# Altium integrated library Infineon_Microcontroller.IntLib: 721 symbols (part 17 of 66)
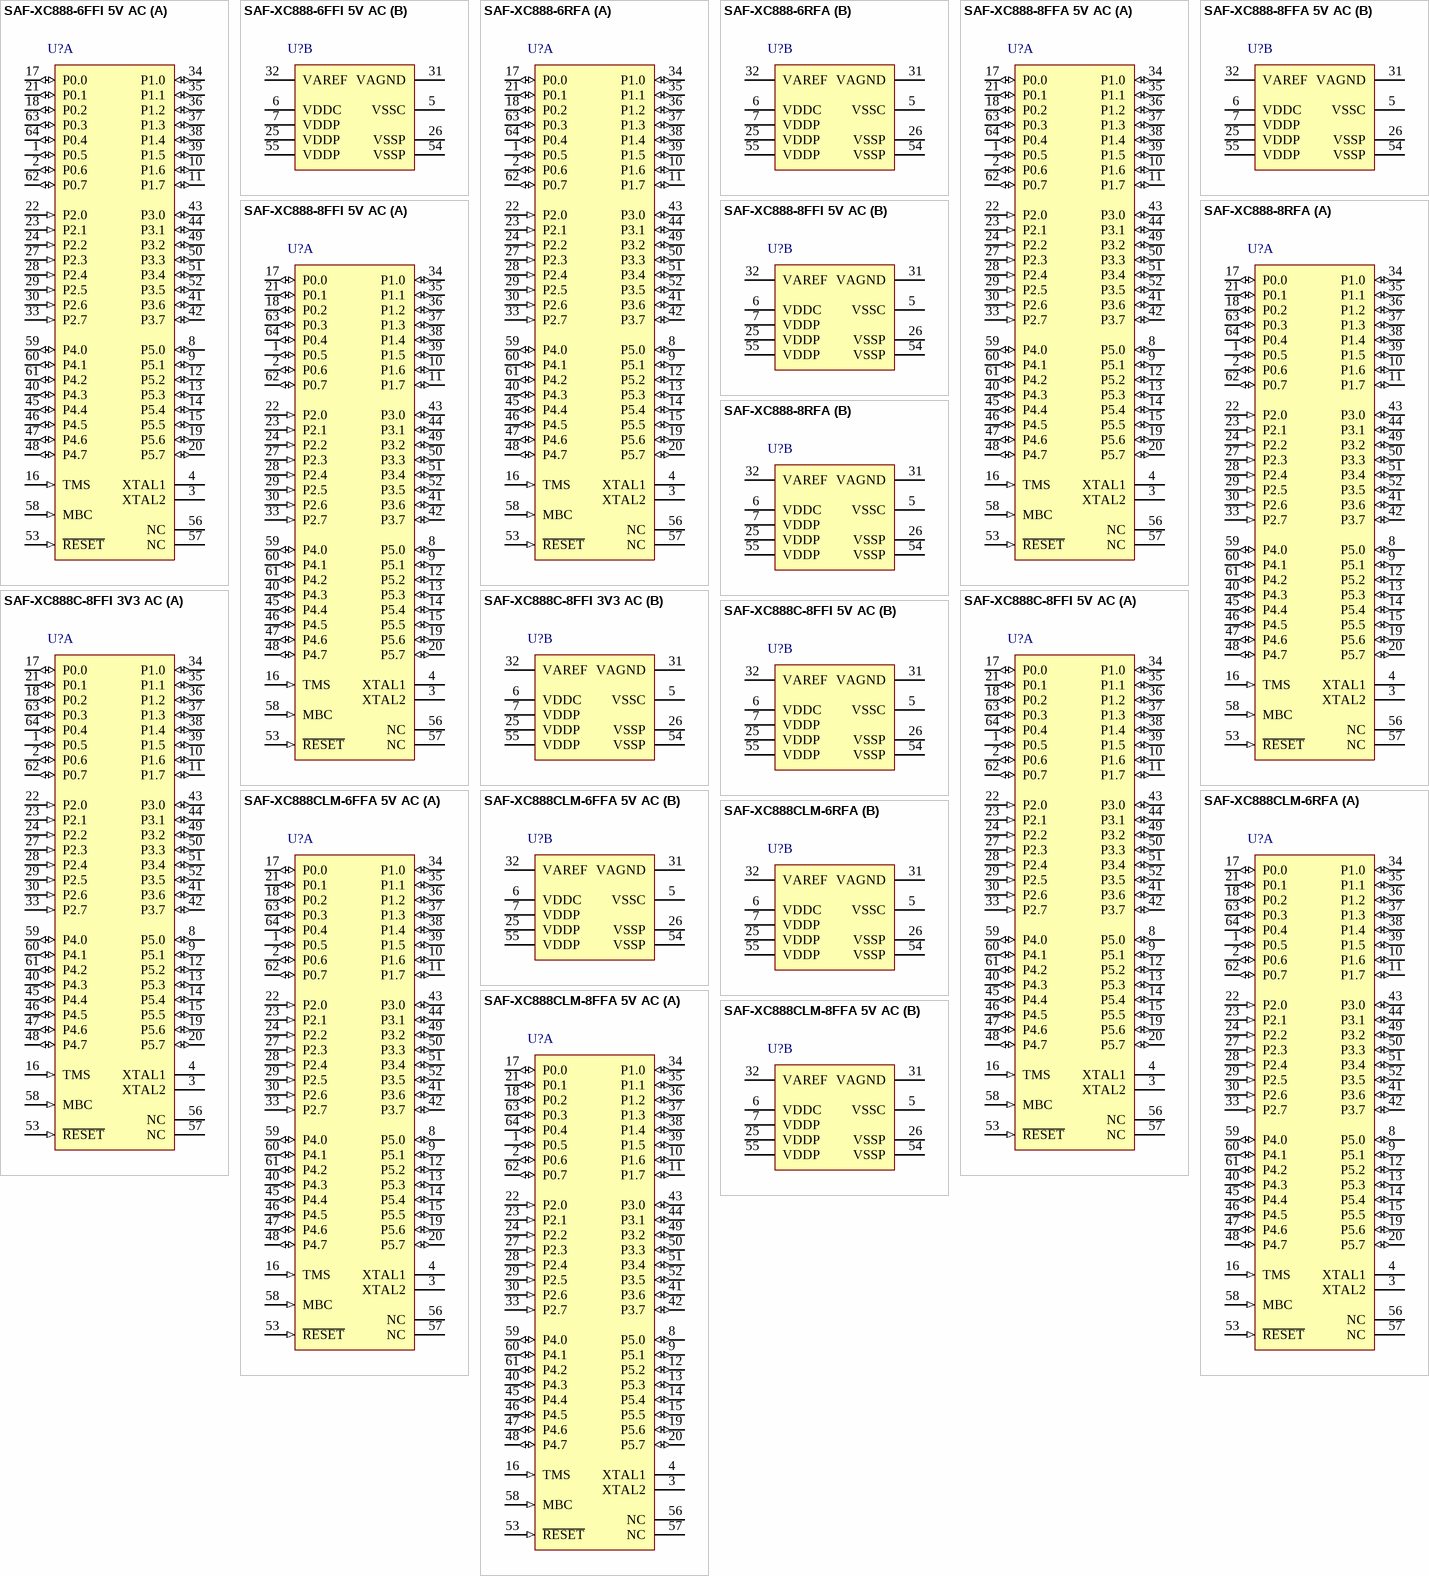
[diagram p134: symbols SAF-XC888-6FFI 5V AC to SAF-XC888CLM-8FFA 5V AC]

## SAF-XC888C-8FFI 5V AC
designator U?
24 MHz XC800-Industrail MCU with 32 KByte Program Memory, 1.75 KByte SRAM, 5 V, -40 to 85 degC, PG-LQFP-64, Green; Manufacturer: Infineon; PartNumber: SAF-XC888C-8FFI 5V AC; A / D input lines (incl. FADC): 8; CAN Nodes: 2; Digital I/O Lines: 48; DMA Channels: 0; DSP functionality (e.g MDU/MAC): FALSE; E2PROM Emulation (Data-Flash): TRUE; I/O Operation Voltages: 5 V; LIN BSL loader (for fast Flash programming): FALSE; Max Clock Frequency: 24 MHz; Number of ADC Modules: 1; Power Modes: 4; Serial I/O Interfaces: 3; Type of Memory: Flash; Type of Serial I/O Interfaces: UART(2), SSC(1); DatasheetVersion: Rev. 1.2; PackageVersion: Jun-08; PackageReference: PG-LQFP-64-4; PackageDescription: 64-Pin Plastic (Green) Low Profile Quad Flat Package, 10 x 10 mm Body, 0.5 mm Pitch; Supplier 1: Digi-Key; Supplier Part Number 1: SAF-XC888C-8FFI 5V AC-ND; Green: TRUE; Instruction width [bits]: 8; On-chip clock generation: TRUE; On-chip Voltage Regulator: TRUE; Oscillator Watchdog: TRUE; Program Memory: 32 KByte; SRAM (incl. Cache): 1.75 KByte; Timed I/O Pins (PWM-Ch,CAPCOM): 4; Timer / Counter: 4; Watchdog Timer: TRUE; Mounting Technology: Surface Mount; ComponentLink1Description: Manufacturer URL; ComponentLink1URL: http://www.infineon.com/; ComponentLink2Description: Datasheet; ComponentLink2URL: http://www.infineon.com/dgdl/XC88xCLM_ds_V1_2.pdf?folderId=db3a304412b407950112b408e8c90004&fileId=db3a304412b407950112b40c4a9e0afb; ComponentLink3Description: Package Specification; ComponentLink3URL: http://www.infineon.com/dgdl/PG-LQFP-64-4%2C-5%2C-13-Package_Overview.pdf?folderId=db3a30431a5c32f2011a8ca6115b5cf2&fileId=db3a30431a5c32f2011a8cb1baf95d11
footprint INF-PG-LQFP-64-4_N (QFP, 64-Leads, Body 10x10mm, Pitch 0.5mm, IPC Medium Density)
footprint INF-PG-LQFP-64-4_L (QFP, 64-Leads, Body 10x10mm, Pitch 0.5mm, IPC High Density)
footprint INF-PG-LQFP-64-4_M (QFP, 64-Leads, Body 10x10mm, Pitch 0.5mm, IPC Low Density)
part A pins: 1 P0.5 (io), 2 P0.6 (io) "GPIO", 3 XTAL2 "External Oscillator Output", 4 XTAL1 "External Oscillator Input", 8 P5.0 (io), 9 P5.1 (io), 10 P1.6 (io), 11 P1.7 (io), 12 P5.2 (io), 13 P5.3 (io), 14 P5.4 (io), 15 P5.5 (io), 16 TMS (in) "Test Mode Select", 17 P0.0 (io), 18 P0.2 (io), 19 P5.6 (io), 20 P5.7 (io), 21 P0.1 (io), 22 P2.0 (in), 23 P2.1 (in), 24 P2.2 (in), 27 P2.3 (in), 28 P2.4 (in), 29 P2.5 (in), 30 P2.6 (in), 33 P2.7 (in), 34 P1.0 (io), 35 P1.1 (io), 36 P1.2 (io), 37 P1.3 (io), 38 P1.4 (io), 39 P1.5 (io), 40 P4.3 (io), 41 P3.6 (io), 42 P3.7 (io), 43 P3.0 (io), 44 P3.1 (io), 45 P4.4 (io), 46 P4.5 (io), 47 P4.6 (io), 48 P4.7 (io), 49 P3.2 (io), 50 P3.3 (io), 51 P3.4 (io), 52 P3.5 (io), 53 ~{RESET} (in) "Reset Input", 56 NC "No Connection", 57 NC "No Connection", 58 MBC (in) "Monitor & BootStrap Loader Control", 59 P4.0 (io), 60 P4.1 (io), 61 P4.2 (io), 62 P0.7 (io), 63 P0.3 (io), 64 P0.4 (io)
part B pins: 5 VSSC (power) "Core Supply Ground", 6 VDDC (power) "Core Supply Monitor (2.5 V)", 7 VDDP (power) "I/O Port Supply (3.3 or 5.0 V)", 25 VDDP (power) "I/O Port Supply (3.3 or 5.0 V)", 26 VSSP (power) "I/O Port Ground", 31 VAGND (power) "ADC Reference Ground", 32 VAREF (power) "ADC Reference Voltage", 54 VSSP (power) "I/O Port Ground", 55 VDDP (power) "I/O Port Supply (3.3 or 5.0 V)"

## SAF-XC888CLM-6FFA 5V AC
designator U?
24 MHz XC800-Automotive MCU with 24 KByte Program Memory, 1.75 KByte SRAM, 5 V, PG-LQFP-64, Reel, Green; Manufacturer: Infineon; PartNumber: SAF-XC888CLM-6FFA 5V AC; A / D input lines (incl. FADC): 8; CAN Nodes: 2; Digital I/O Lines: 48; DMA Channels: 0; DSP functionality (e.g MDU/MAC): TRUE; I/O Operation Voltages: 5 V; Max Clock Frequency: 24 MHz; Number of ADC Modules: 1; Power Modes: 4; Real Time Clock (RTC): FALSE; Serial I/O Interfaces: 3; Type of Memory: Flash; Type of Serial I/O Interfaces: UART(2), SSC(1); DatasheetVersion: Rev. 1.2; PackageVersion: V1.2, 03/2007; PackageReference: PG-TQFP-64-8; PackageDescription: 64-Pin Plastic Thin Quad Flat Package, Body 10 x 10 mm, Pitch 0.5 mm; Supplier 1: Digi-Key; Supplier Part Number 1: SAF-XC888CLM-6FFA5VACINTR-ND; Supplier 2: Digi-Key; Supplier Part Number 2: SAF-XC888CLM-6FFA5VACINCT-ND; Supplier 3: Digi-Key; Supplier Part Number 3: SAF-XC888CLM-6FFA5VACINDKR-ND; E2PROM Emulation (Data-Flash): TRUE; Green: TRUE; Halogen-free: TRUE; Instruction width [bits]: 8; LIN BSL loader (for fast Flash programming): TRUE; On-chip clock generation: TRUE; On-chip Voltage Regulator: TRUE; Oscillator Watchdog: TRUE; Program Memory: 24 KByte; SRAM (incl. Cache): 1.75 KByte; Timed I/O Pins (PWM-Ch,CAPCOM): 4; Timer / Counter: 4; Watchdog Timer: TRUE; Mounting Technology: Surface Mount; ComponentLink1Description: Manufacturer URL; ComponentLink1URL: http://www.infineon.com/; ComponentLink2Description: Datasheet; ComponentLink2URL: http://www.infineon.com/dgdl/XC88xCLM_ds_V1_2.pdf?folderId=db3a304412b407950112b408e8c90004&fileId=db3a304412b407950112b40c4a9e0afb; ComponentLink3Description: Package Specification; ComponentLink3URL: http://www.infineon.com/dgdl/xc164lm_ds_v1.2_2007_03.pdf?folderId=db3a304412b407950112b408e8c90004&fileId=db3a304412b407950112b40c22200a81&sId=db3a30433d956bc3013d9e7060dd2801
footprint INF-PG-TQFP-64-8_N (QFP, 64-Leads, Body 10x10mm, Pitch 0.5mm, IPC Medium Density)
footprint INF-PG-TQFP-64-8_L (QFP, 64-Leads, Body 10x10mm, Pitch 0.5mm, IPC High Density)
footprint INF-PG-TQFP-64-8_M (QFP, 64-Leads, Body 10x10mm, Pitch 0.5mm, IPC Low Density)
part A pins: 1 P0.5 (io), 2 P0.6 (io) "GPIO", 3 XTAL2 "External Oscillator Output", 4 XTAL1 "External Oscillator Input", 8 P5.0 (io), 9 P5.1 (io), 10 P1.6 (io), 11 P1.7 (io), 12 P5.2 (io), 13 P5.3 (io), 14 P5.4 (io), 15 P5.5 (io), 16 TMS (in) "Test Mode Select", 17 P0.0 (io), 18 P0.2 (io), 19 P5.6 (io), 20 P5.7 (io), 21 P0.1 (io), 22 P2.0 (in), 23 P2.1 (in), 24 P2.2 (in), 27 P2.3 (in), 28 P2.4 (in), 29 P2.5 (in), 30 P2.6 (in), 33 P2.7 (in), 34 P1.0 (io), 35 P1.1 (io), 36 P1.2 (io), 37 P1.3 (io), 38 P1.4 (io), 39 P1.5 (io), 40 P4.3 (io), 41 P3.6 (io), 42 P3.7 (io), 43 P3.0 (io), 44 P3.1 (io), 45 P4.4 (io), 46 P4.5 (io), 47 P4.6 (io), 48 P4.7 (io), 49 P3.2 (io), 50 P3.3 (io), 51 P3.4 (io), 52 P3.5 (io), 53 ~{RESET} (in) "Reset Input", 56 NC "No Connection", 57 NC "No Connection", 58 MBC (in) "Monitor & BootStrap Loader Control", 59 P4.0 (io), 60 P4.1 (io), 61 P4.2 (io), 62 P0.7 (io), 63 P0.3 (io), 64 P0.4 (io)
part B pins: 5 VSSC (power) "Core Supply Ground", 6 VDDC (power) "Core Supply Monitor (2.5 V)", 7 VDDP (power) "I/O Port Supply (3.3 or 5.0 V)", 25 VDDP (power) "I/O Port Supply (3.3 or 5.0 V)", 26 VSSP (power) "I/O Port Ground", 31 VAGND (power) "ADC Reference Ground", 32 VAREF (power) "ADC Reference Voltage", 54 VSSP (power) "I/O Port Ground", 55 VDDP (power) "I/O Port Supply (3.3 or 5.0 V)"

## SAF-XC888CLM-6RFA
designator U?
24 MHz XC800-Automotive MCU with 24 KByte Program Memory, 1.75 KByte SRAM, 5 V, PG-TQFP-64, Green; Manufacturer: Infineon; PartNumber: SAF-XC888CLM-6RFA; A / D input lines (incl. FADC): 8; CAN Nodes: 2; Digital I/O Lines: 34; DMA Channels: 0; DSP functionality (e.g MDU/MAC): TRUE; I/O Operation Voltages: 5 V; LIN BSL loader (for fast Flash programming): FALSE; Max Clock Frequency: 24 MHz; Number of ADC Modules: 1; Power Modes: 4; Real Time Clock (RTC): FALSE; Serial I/O Interfaces: 3; Type of Memory: ROM; Type of Serial I/O Interfaces: UART(2), SSC(1); DatasheetVersion: Rev. 1.2; PackageVersion: V1.2, 03/2007; PackageReference: PG-TQFP-64-8; PackageDescription: 64-Pin Plastic Thin Quad Flat Package, Body 10 x 10 mm, Pitch 0.5 mm; E2PROM Emulation (Data-Flash): TRUE; Green: TRUE; Instruction width [bits]: 8; On-chip clock generation: TRUE; On-chip Voltage Regulator: TRUE; Oscillator Watchdog: TRUE; Program Memory: 24 KByte; SRAM (incl. Cache): 1.75 KByte; Timed I/O Pins (PWM-Ch,CAPCOM): 4; Timer / Counter: 4; Watchdog Timer: TRUE; Mounting Technology: Surface Mount; ComponentLink1Description: Manufacturer URL; ComponentLink1URL: http://www.infineon.com/; ComponentLink2Description: Datasheet; ComponentLink2URL: http://www.infineon.com/dgdl/XC88xCLM_ds_V1_2.pdf?folderId=db3a304412b407950112b408e8c90004&fileId=db3a304412b407950112b40c4a9e0afb; ComponentLink3Description: Package Specification; ComponentLink3URL: http://www.infineon.com/dgdl/xc164lm_ds_v1.2_2007_03.pdf?folderId=db3a304412b407950112b408e8c90004&fileId=db3a304412b407950112b40c22200a81&sId=db3a30433d956bc3013d9e7060dd2801
footprint INF-PG-TQFP-64-8_N (QFP, 64-Leads, Body 10x10mm, Pitch 0.5mm, IPC Medium Density)
footprint INF-PG-TQFP-64-8_L (QFP, 64-Leads, Body 10x10mm, Pitch 0.5mm, IPC High Density)
footprint INF-PG-TQFP-64-8_M (QFP, 64-Leads, Body 10x10mm, Pitch 0.5mm, IPC Low Density)
part A pins: 1 P0.5 (io), 2 P0.6 (io) "GPIO", 3 XTAL2 "External Oscillator Output", 4 XTAL1 "External Oscillator Input", 8 P5.0 (io), 9 P5.1 (io), 10 P1.6 (io), 11 P1.7 (io), 12 P5.2 (io), 13 P5.3 (io), 14 P5.4 (io), 15 P5.5 (io), 16 TMS (in) "Test Mode Select", 17 P0.0 (io), 18 P0.2 (io), 19 P5.6 (io), 20 P5.7 (io), 21 P0.1 (io), 22 P2.0 (in), 23 P2.1 (in), 24 P2.2 (in), 27 P2.3 (in), 28 P2.4 (in), 29 P2.5 (in), 30 P2.6 (in), 33 P2.7 (in), 34 P1.0 (io), 35 P1.1 (io), 36 P1.2 (io), 37 P1.3 (io), 38 P1.4 (io), 39 P1.5 (io), 40 P4.3 (io), 41 P3.6 (io), 42 P3.7 (io), 43 P3.0 (io), 44 P3.1 (io), 45 P4.4 (io), 46 P4.5 (io), 47 P4.6 (io), 48 P4.7 (io), 49 P3.2 (io), 50 P3.3 (io), 51 P3.4 (io), 52 P3.5 (io), 53 ~{RESET} (in) "Reset Input", 56 NC "No Connection", 57 NC "No Connection", 58 MBC (in) "Monitor & BootStrap Loader Control", 59 P4.0 (io), 60 P4.1 (io), 61 P4.2 (io), 62 P0.7 (io), 63 P0.3 (io), 64 P0.4 (io)
part B pins: 5 VSSC (power) "Core Supply Ground", 6 VDDC (power) "Core Supply Monitor (2.5 V)", 7 VDDP (power) "I/O Port Supply (3.3 or 5.0 V)", 25 VDDP (power) "I/O Port Supply (3.3 or 5.0 V)", 26 VSSP (power) "I/O Port Ground", 31 VAGND (power) "ADC Reference Ground", 32 VAREF (power) "ADC Reference Voltage", 54 VSSP (power) "I/O Port Ground", 55 VDDP (power) "I/O Port Supply (3.3 or 5.0 V)"

## SAF-XC888CLM-8FFA 5V AC
designator U?
24 MHz XC800-Automotive MCU with 32 KByte Program Memory, 1.75 KByte SRAM, 5 V, PG-LQFP-64, Reel, Green; Manufacturer: Infineon; PartNumber: SAF-XC888CLM-8FFA 5V AC; A / D input lines (incl. FADC): 8; CAN Nodes: 2; Digital I/O Lines: 48; DMA Channels: 0; DSP functionality (e.g MDU/MAC): TRUE; I/O Operation Voltages: 5 V; Max Clock Frequency: 24 MHz; Number of ADC Modules: 1; Power Modes: 4; Real Time Clock (RTC): FALSE; Serial I/O Interfaces: 3; Type of Memory: Flash; Type of Serial I/O Interfaces: UART(2), SSC(1); DatasheetVersion: Rev. 1.2; PackageVersion: V1.2, 03/2007; PackageReference: PG-TQFP-64-8; PackageDescription: 64-Pin Plastic Thin Quad Flat Package, Body 10 x 10 mm, Pitch 0.5 mm; Supplier 1: Digi-Key; Supplier Part Number 1: SAF-XC888CLM-8FFA5VACINTR-ND; Supplier 2: Digi-Key; Supplier Part Number 2: SAF-XC888CLM-8FFA5VACINCT-ND; Supplier 3: Digi-Key; Supplier Part Number 3: SAF-XC888CLM-8FFA5VACINDKR-ND; E2PROM Emulation (Data-Flash): TRUE; Green: TRUE; Halogen-free: available; Instruction width [bits]: 8; LIN BSL loader (for fast Flash programming): TRUE; On-chip clock generation: TRUE; On-chip Voltage Regulator: TRUE; Oscillator Watchdog: TRUE; Program Memory: 32 KByte; SRAM (incl. Cache): 1.75 KByte; Timed I/O Pins (PWM-Ch,CAPCOM): 4; Timer / Counter: 4; Watchdog Timer: TRUE; Mounting Technology: Surface Mount; ComponentLink1Description: Manufacturer URL; ComponentLink1URL: http://www.infineon.com/; ComponentLink2Description: Datasheet; ComponentLink2URL: http://www.infineon.com/dgdl/XC88xCLM_ds_V1_2.pdf?folderId=db3a304412b407950112b408e8c90004&fileId=db3a304412b407950112b40c4a9e0afb; ComponentLink3Description: Package Specification; ComponentLink3URL: http://www.infineon.com/dgdl/xc164lm_ds_v1.2_2007_03.pdf?folderId=db3a304412b407950112b408e8c90004&fileId=db3a304412b407950112b40c22200a81&sId=db3a30433d956bc3013d9e7060dd2801
footprint INF-PG-TQFP-64-8_N (QFP, 64-Leads, Body 10x10mm, Pitch 0.5mm, IPC Medium Density)
footprint INF-PG-TQFP-64-8_L (QFP, 64-Leads, Body 10x10mm, Pitch 0.5mm, IPC High Density)
footprint INF-PG-TQFP-64-8_M (QFP, 64-Leads, Body 10x10mm, Pitch 0.5mm, IPC Low Density)
part A pins: 1 P0.5 (io), 2 P0.6 (io) "GPIO", 3 XTAL2 "External Oscillator Output", 4 XTAL1 "External Oscillator Input", 8 P5.0 (io), 9 P5.1 (io), 10 P1.6 (io), 11 P1.7 (io), 12 P5.2 (io), 13 P5.3 (io), 14 P5.4 (io), 15 P5.5 (io), 16 TMS (in) "Test Mode Select", 17 P0.0 (io), 18 P0.2 (io), 19 P5.6 (io), 20 P5.7 (io), 21 P0.1 (io), 22 P2.0 (in), 23 P2.1 (in), 24 P2.2 (in), 27 P2.3 (in), 28 P2.4 (in), 29 P2.5 (in), 30 P2.6 (in), 33 P2.7 (in), 34 P1.0 (io), 35 P1.1 (io), 36 P1.2 (io), 37 P1.3 (io), 38 P1.4 (io), 39 P1.5 (io), 40 P4.3 (io), 41 P3.6 (io), 42 P3.7 (io), 43 P3.0 (io), 44 P3.1 (io), 45 P4.4 (io), 46 P4.5 (io), 47 P4.6 (io), 48 P4.7 (io), 49 P3.2 (io), 50 P3.3 (io), 51 P3.4 (io), 52 P3.5 (io), 53 ~{RESET} (in) "Reset Input", 56 NC "No Connection", 57 NC "No Connection", 58 MBC (in) "Monitor & BootStrap Loader Control", 59 P4.0 (io), 60 P4.1 (io), 61 P4.2 (io), 62 P0.7 (io), 63 P0.3 (io), 64 P0.4 (io)
part B pins: 5 VSSC (power) "Core Supply Ground", 6 VDDC (power) "Core Supply Monitor (2.5 V)", 7 VDDP (power) "I/O Port Supply (3.3 or 5.0 V)", 25 VDDP (power) "I/O Port Supply (3.3 or 5.0 V)", 26 VSSP (power) "I/O Port Ground", 31 VAGND (power) "ADC Reference Ground", 32 VAREF (power) "ADC Reference Voltage", 54 VSSP (power) "I/O Port Ground", 55 VDDP (power) "I/O Port Supply (3.3 or 5.0 V)"

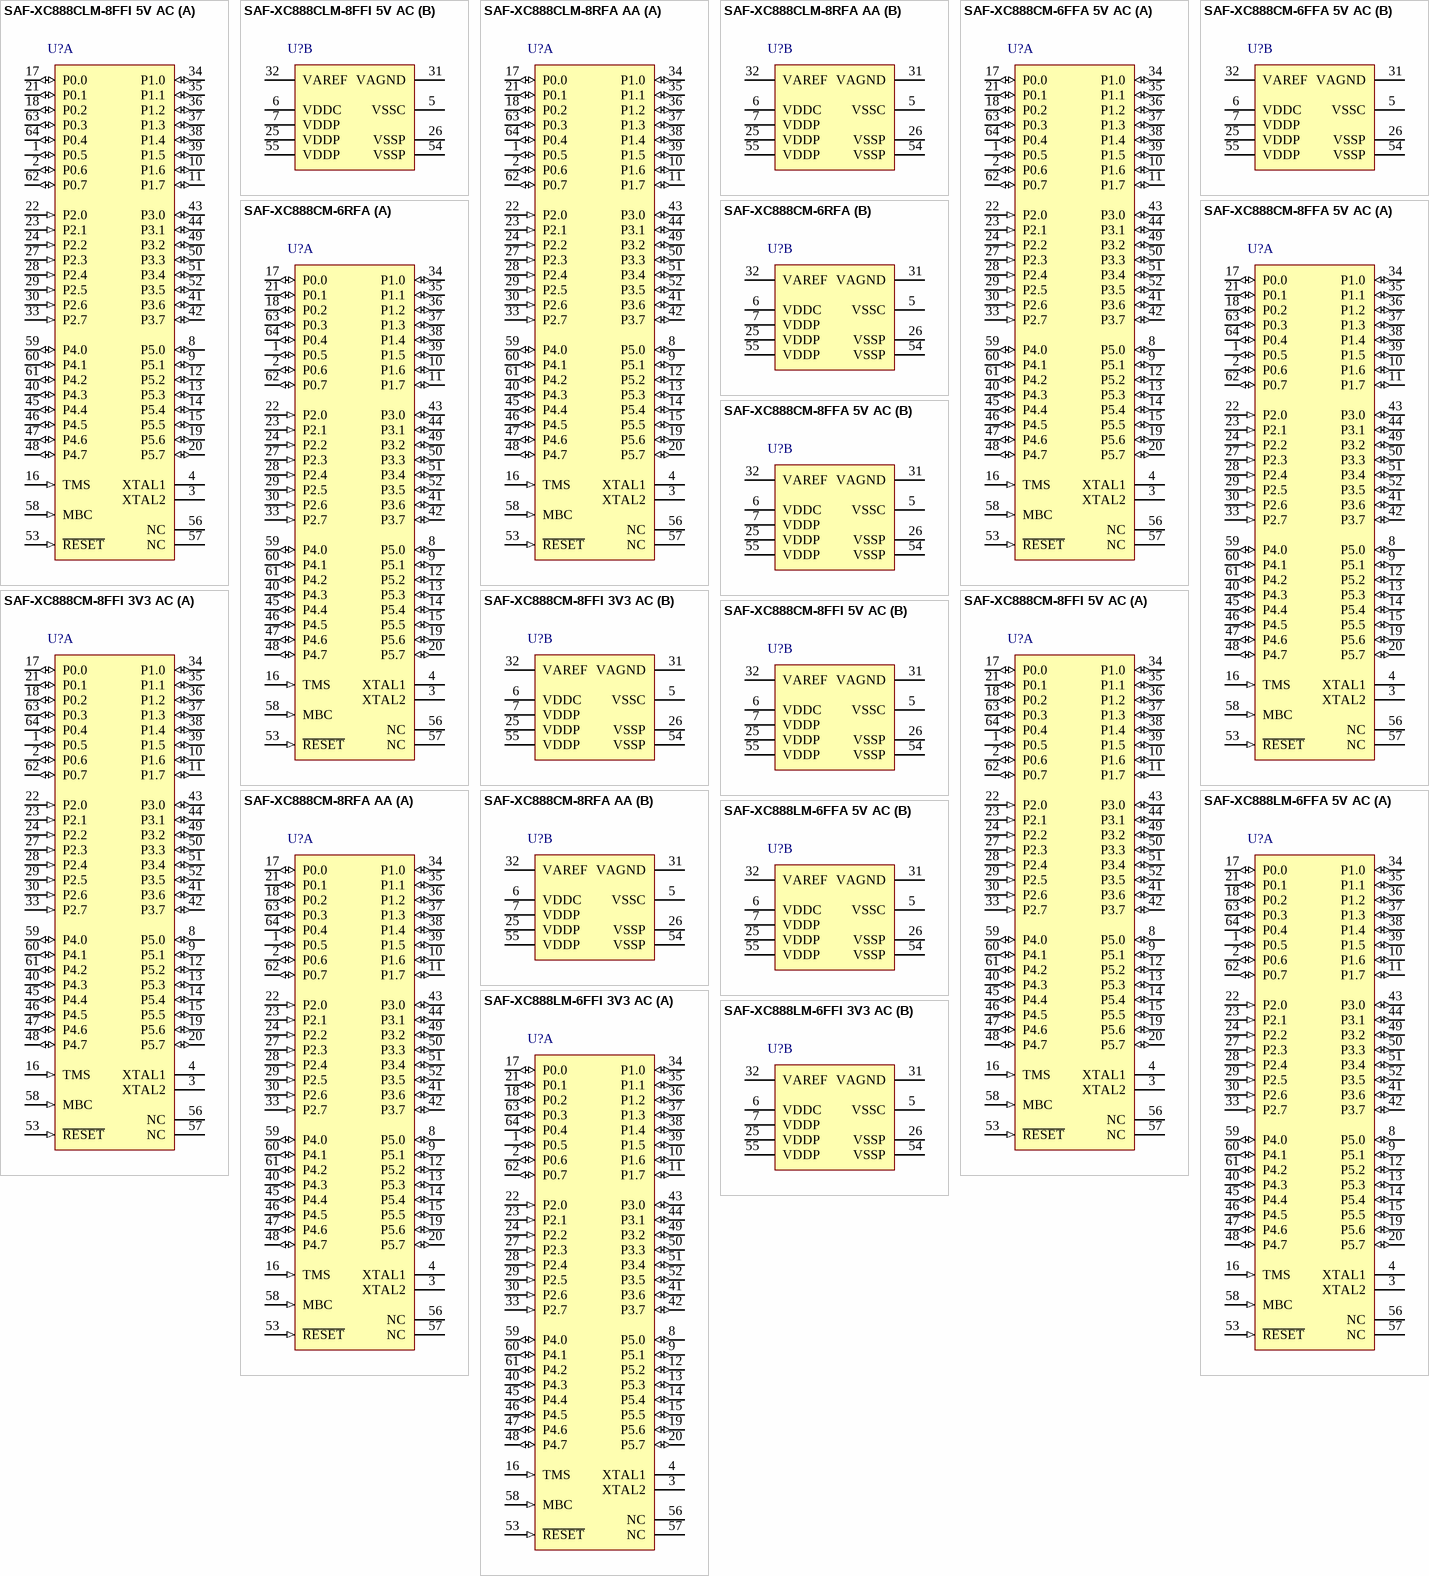
[diagram p27: symbols SAF-XC888CLM-8FFI 5V AC to SAF-XC888LM-6FFI 3V3 AC]

## SAF-XC888CLM-8FFI 5V AC
designator U?
24 MHz XC800-Industrail MCU with 32 KByte Program Memory, 1.75 KByte SRAM, 5 V, -40 to 85 degC, PG-LQFP-64, Reel, Green; Manufacturer: Infineon; PartNumber: SAF-XC888CLM-8FFI 5V AC; A / D input lines (incl. FADC): 8; CAN Nodes: 2; Digital I/O Lines: 48; DMA Channels: 0; DSP functionality (e.g MDU/MAC): TRUE; I/O Operation Voltages: 5 V; Max Clock Frequency: 24 MHz; Number of ADC Modules: 1; Power Modes: 4; Serial I/O Interfaces: 3; Type of Memory: Flash; Type of Serial I/O Interfaces: UART(2), SSC(1); DatasheetVersion: Rev. 1.2; PackageVersion: Jun-08; PackageReference: PG-LQFP-64-4; PackageDescription: 64-Pin Plastic (Green) Low Profile Quad Flat Package, 10 x 10 mm Body, 0.5 mm Pitch; Supplier 1: Digi-Key; Supplier Part Number 1: SAF-XC888CLM-8FFI 5V AC-ND; E2PROM Emulation (Data-Flash): TRUE; Green: TRUE; Halogen-free: TRUE; Instruction width [bits]: 8; LIN BSL loader (for fast Flash programming): TRUE; On-chip clock generation: TRUE; On-chip Voltage Regulator: TRUE; Oscillator Watchdog: TRUE; Packing: Reel; Program Memory: 32 KByte; SRAM (incl. Cache): 1.75 KByte; Timed I/O Pins (PWM-Ch,CAPCOM): 4; Timer / Counter: 4; Watchdog Timer: TRUE; Mounting Technology: Surface Mount; ComponentLink1Description: Manufacturer URL; ComponentLink1URL: http://www.infineon.com/; ComponentLink2Description: Datasheet; ComponentLink2URL: http://www.infineon.com/dgdl/XC88xCLM_ds_V1_2.pdf?folderId=db3a304412b407950112b408e8c90004&fileId=db3a304412b407950112b40c4a9e0afb; ComponentLink3Description: Package Specification; ComponentLink3URL: http://www.infineon.com/dgdl/PG-LQFP-64-4%2C-5%2C-13-Package_Overview.pdf?folderId=db3a30431a5c32f2011a8ca6115b5cf2&fileId=db3a30431a5c32f2011a8cb1baf95d11
footprint INF-PG-LQFP-64-4_N (QFP, 64-Leads, Body 10x10mm, Pitch 0.5mm, IPC Medium Density)
footprint INF-PG-LQFP-64-4_L (QFP, 64-Leads, Body 10x10mm, Pitch 0.5mm, IPC High Density)
footprint INF-PG-LQFP-64-4_M (QFP, 64-Leads, Body 10x10mm, Pitch 0.5mm, IPC Low Density)
part A pins: 1 P0.5 (io), 2 P0.6 (io) "GPIO", 3 XTAL2 "External Oscillator Output", 4 XTAL1 "External Oscillator Input", 8 P5.0 (io), 9 P5.1 (io), 10 P1.6 (io), 11 P1.7 (io), 12 P5.2 (io), 13 P5.3 (io), 14 P5.4 (io), 15 P5.5 (io), 16 TMS (in) "Test Mode Select", 17 P0.0 (io), 18 P0.2 (io), 19 P5.6 (io), 20 P5.7 (io), 21 P0.1 (io), 22 P2.0 (in), 23 P2.1 (in), 24 P2.2 (in), 27 P2.3 (in), 28 P2.4 (in), 29 P2.5 (in), 30 P2.6 (in), 33 P2.7 (in), 34 P1.0 (io), 35 P1.1 (io), 36 P1.2 (io), 37 P1.3 (io), 38 P1.4 (io), 39 P1.5 (io), 40 P4.3 (io), 41 P3.6 (io), 42 P3.7 (io), 43 P3.0 (io), 44 P3.1 (io), 45 P4.4 (io), 46 P4.5 (io), 47 P4.6 (io), 48 P4.7 (io), 49 P3.2 (io), 50 P3.3 (io), 51 P3.4 (io), 52 P3.5 (io), 53 ~{RESET} (in) "Reset Input", 56 NC "No Connection", 57 NC "No Connection", 58 MBC (in) "Monitor & BootStrap Loader Control", 59 P4.0 (io), 60 P4.1 (io), 61 P4.2 (io), 62 P0.7 (io), 63 P0.3 (io), 64 P0.4 (io)
part B pins: 5 VSSC (power) "Core Supply Ground", 6 VDDC (power) "Core Supply Monitor (2.5 V)", 7 VDDP (power) "I/O Port Supply (3.3 or 5.0 V)", 25 VDDP (power) "I/O Port Supply (3.3 or 5.0 V)", 26 VSSP (power) "I/O Port Ground", 31 VAGND (power) "ADC Reference Ground", 32 VAREF (power) "ADC Reference Voltage", 54 VSSP (power) "I/O Port Ground", 55 VDDP (power) "I/O Port Supply (3.3 or 5.0 V)"

## SAF-XC888CLM-8RFA AA
designator U?
24 MHz XC800-Automotive MCU with 32 KByte Program Memory, 1.75 KByte SRAM, 5 V, PG-TQFP-64, Green; Manufacturer: Infineon; PartNumber: SAF-XC888CLM-8RFA AA; A / D input lines (incl. FADC): 8; CAN Nodes: 2; Digital I/O Lines: 34; DMA Channels: 0; DSP functionality (e.g MDU/MAC): TRUE; I/O Operation Voltages: 5 V; LIN BSL loader (for fast Flash programming): FALSE; Max Clock Frequency: 24 MHz; Number of ADC Modules: 1; Power Modes: 4; Real Time Clock (RTC): FALSE; Serial I/O Interfaces: 3; Type of Memory: ROM; Type of Serial I/O Interfaces: UART(2), SSC(1); DatasheetVersion: Rev. 1.2; PackageVersion: V1.2, 03/2007; PackageReference: PG-TQFP-64-8; PackageDescription: 64-Pin Plastic Thin Quad Flat Package, Body 10 x 10 mm, Pitch 0.5 mm; E2PROM Emulation (Data-Flash): TRUE; Green: TRUE; Instruction width [bits]: 8; On-chip clock generation: TRUE; On-chip Voltage Regulator: TRUE; Oscillator Watchdog: TRUE; Program Memory: 32 KByte; SRAM (incl. Cache): 1.75 KByte; Timed I/O Pins (PWM-Ch,CAPCOM): 4; Timer / Counter: 4; Watchdog Timer: TRUE; Mounting Technology: Surface Mount; ComponentLink1Description: Manufacturer URL; ComponentLink1URL: http://www.infineon.com/; ComponentLink2Description: Datasheet; ComponentLink2URL: http://www.infineon.com/dgdl/XC88xCLM_ds_V1_2.pdf?folderId=db3a304412b407950112b408e8c90004&fileId=db3a304412b407950112b40c4a9e0afb; ComponentLink3Description: Package Specification; ComponentLink3URL: http://www.infineon.com/dgdl/xc164lm_ds_v1.2_2007_03.pdf?folderId=db3a304412b407950112b408e8c90004&fileId=db3a304412b407950112b40c22200a81&sId=db3a30433d956bc3013d9e7060dd2801
footprint INF-PG-TQFP-64-8_N (QFP, 64-Leads, Body 10x10mm, Pitch 0.5mm, IPC Medium Density)
footprint INF-PG-TQFP-64-8_L (QFP, 64-Leads, Body 10x10mm, Pitch 0.5mm, IPC High Density)
footprint INF-PG-TQFP-64-8_M (QFP, 64-Leads, Body 10x10mm, Pitch 0.5mm, IPC Low Density)
part A pins: 1 P0.5 (io), 2 P0.6 (io) "GPIO", 3 XTAL2 "External Oscillator Output", 4 XTAL1 "External Oscillator Input", 8 P5.0 (io), 9 P5.1 (io), 10 P1.6 (io), 11 P1.7 (io), 12 P5.2 (io), 13 P5.3 (io), 14 P5.4 (io), 15 P5.5 (io), 16 TMS (in) "Test Mode Select", 17 P0.0 (io), 18 P0.2 (io), 19 P5.6 (io), 20 P5.7 (io), 21 P0.1 (io), 22 P2.0 (in), 23 P2.1 (in), 24 P2.2 (in), 27 P2.3 (in), 28 P2.4 (in), 29 P2.5 (in), 30 P2.6 (in), 33 P2.7 (in), 34 P1.0 (io), 35 P1.1 (io), 36 P1.2 (io), 37 P1.3 (io), 38 P1.4 (io), 39 P1.5 (io), 40 P4.3 (io), 41 P3.6 (io), 42 P3.7 (io), 43 P3.0 (io), 44 P3.1 (io), 45 P4.4 (io), 46 P4.5 (io), 47 P4.6 (io), 48 P4.7 (io), 49 P3.2 (io), 50 P3.3 (io), 51 P3.4 (io), 52 P3.5 (io), 53 ~{RESET} (in) "Reset Input", 56 NC "No Connection", 57 NC "No Connection", 58 MBC (in) "Monitor & BootStrap Loader Control", 59 P4.0 (io), 60 P4.1 (io), 61 P4.2 (io), 62 P0.7 (io), 63 P0.3 (io), 64 P0.4 (io)
part B pins: 5 VSSC (power) "Core Supply Ground", 6 VDDC (power) "Core Supply Monitor (2.5 V)", 7 VDDP (power) "I/O Port Supply (3.3 or 5.0 V)", 25 VDDP (power) "I/O Port Supply (3.3 or 5.0 V)", 26 VSSP (power) "I/O Port Ground", 31 VAGND (power) "ADC Reference Ground", 32 VAREF (power) "ADC Reference Voltage", 54 VSSP (power) "I/O Port Ground", 55 VDDP (power) "I/O Port Supply (3.3 or 5.0 V)"

## SAF-XC888CM-6FFA 5V AC
designator U?
24 MHz XC800-Automotive MCU with 24 KByte Program Memory, 1.75 KByte SRAM, 5 V, PG-LQFP-64, Reel, Green; Manufacturer: Infineon; PartNumber: SAF-XC888CM-6FFA 5V AC; A / D input lines (incl. FADC): 8; CAN Nodes: 2; Digital I/O Lines: 48; DMA Channels: 0; DSP functionality (e.g MDU/MAC): TRUE; I/O Operation Voltages: 5 V; LIN BSL loader (for fast Flash programming): FALSE; Max Clock Frequency: 24 MHz; Number of ADC Modules: 1; Power Modes: 4; Real Time Clock (RTC): FALSE; Serial I/O Interfaces: 3; Type of Memory: Flash; Type of Serial I/O Interfaces: UART(2), SSC(1); DatasheetVersion: Rev. 1.2; PackageVersion: V1.2, 03/2007; PackageReference: PG-TQFP-64-8; PackageDescription: 64-Pin Plastic Thin Quad Flat Package, Body 10 x 10 mm, Pitch 0.5 mm; Supplier 1: Digi-Key; Supplier Part Number 1: SAF-XC888CM-6FFA 5V AC-ND; E2PROM Emulation (Data-Flash): TRUE; Green: TRUE; Halogen-free: TRUE; Instruction width [bits]: 8; On-chip clock generation: TRUE; On-chip Voltage Regulator: TRUE; Oscillator Watchdog: TRUE; Program Memory: 24 KByte; SRAM (incl. Cache): 1.75 KByte; Timed I/O Pins (PWM-Ch,CAPCOM): 4; Timer / Counter: 4; Watchdog Timer: TRUE; Mounting Technology: Surface Mount; ComponentLink1Description: Manufacturer URL; ComponentLink1URL: http://www.infineon.com/; ComponentLink2Description: Datasheet; ComponentLink2URL: http://www.infineon.com/dgdl/XC88xCLM_ds_V1_2.pdf?folderId=db3a304412b407950112b408e8c90004&fileId=db3a304412b407950112b40c4a9e0afb; ComponentLink3Description: Package Specification; ComponentLink3URL: http://www.infineon.com/dgdl/xc164lm_ds_v1.2_2007_03.pdf?folderId=db3a304412b407950112b408e8c90004&fileId=db3a304412b407950112b40c22200a81&sId=db3a30433d956bc3013d9e7060dd2801
footprint INF-PG-TQFP-64-8_N (QFP, 64-Leads, Body 10x10mm, Pitch 0.5mm, IPC Medium Density)
footprint INF-PG-TQFP-64-8_L (QFP, 64-Leads, Body 10x10mm, Pitch 0.5mm, IPC High Density)
footprint INF-PG-TQFP-64-8_M (QFP, 64-Leads, Body 10x10mm, Pitch 0.5mm, IPC Low Density)
part A pins: 1 P0.5 (io), 2 P0.6 (io) "GPIO", 3 XTAL2 "External Oscillator Output", 4 XTAL1 "External Oscillator Input", 8 P5.0 (io), 9 P5.1 (io), 10 P1.6 (io), 11 P1.7 (io), 12 P5.2 (io), 13 P5.3 (io), 14 P5.4 (io), 15 P5.5 (io), 16 TMS (in) "Test Mode Select", 17 P0.0 (io), 18 P0.2 (io), 19 P5.6 (io), 20 P5.7 (io), 21 P0.1 (io), 22 P2.0 (in), 23 P2.1 (in), 24 P2.2 (in), 27 P2.3 (in), 28 P2.4 (in), 29 P2.5 (in), 30 P2.6 (in), 33 P2.7 (in), 34 P1.0 (io), 35 P1.1 (io), 36 P1.2 (io), 37 P1.3 (io), 38 P1.4 (io), 39 P1.5 (io), 40 P4.3 (io), 41 P3.6 (io), 42 P3.7 (io), 43 P3.0 (io), 44 P3.1 (io), 45 P4.4 (io), 46 P4.5 (io), 47 P4.6 (io), 48 P4.7 (io), 49 P3.2 (io), 50 P3.3 (io), 51 P3.4 (io), 52 P3.5 (io), 53 ~{RESET} (in) "Reset Input", 56 NC "No Connection", 57 NC "No Connection", 58 MBC (in) "Monitor & BootStrap Loader Control", 59 P4.0 (io), 60 P4.1 (io), 61 P4.2 (io), 62 P0.7 (io), 63 P0.3 (io), 64 P0.4 (io)
part B pins: 5 VSSC (power) "Core Supply Ground", 6 VDDC (power) "Core Supply Monitor (2.5 V)", 7 VDDP (power) "I/O Port Supply (3.3 or 5.0 V)", 25 VDDP (power) "I/O Port Supply (3.3 or 5.0 V)", 26 VSSP (power) "I/O Port Ground", 31 VAGND (power) "ADC Reference Ground", 32 VAREF (power) "ADC Reference Voltage", 54 VSSP (power) "I/O Port Ground", 55 VDDP (power) "I/O Port Supply (3.3 or 5.0 V)"

## SAF-XC888CM-6RFA
designator U?
24 MHz XC800-Automotive MCU with 24 KByte Program Memory, 1.75 KByte SRAM, 5 V, PG-TQFP-64, Reel, Green; Manufacturer: Infineon; PartNumber: SAF-XC888CM-6RFA; A / D input lines (incl. FADC): 8; CAN Nodes: 2; Digital I/O Lines: 34; DMA Channels: 0; DSP functionality (e.g MDU/MAC): TRUE; I/O Operation Voltages: 5 V; LIN BSL loader (for fast Flash programming): FALSE; Max Clock Frequency: 24 MHz; Number of ADC Modules: 1; Power Modes: 4; Real Time Clock (RTC): FALSE; Serial I/O Interfaces: 3; Type of Memory: ROM; Type of Serial I/O Interfaces: UART(2), SSC(1); DatasheetVersion: Rev. 1.2; PackageVersion: V1.2, 03/2007; PackageReference: PG-TQFP-64-8; PackageDescription: 64-Pin Plastic Thin Quad Flat Package, Body 10 x 10 mm, Pitch 0.5 mm; E2PROM Emulation (Data-Flash): TRUE; Green: TRUE; Halogen-free: available; Instruction width [bits]: 8; On-chip clock generation: TRUE; On-chip Voltage Regulator: TRUE; Oscillator Watchdog: TRUE; Packing: Reel; Program Memory: 24 KByte; SRAM (incl. Cache): 1.75 KByte; Timed I/O Pins (PWM-Ch,CAPCOM): 4; Timer / Counter: 4; Watchdog Timer: TRUE; Mounting Technology: Surface Mount; ComponentLink1Description: Manufacturer URL; ComponentLink1URL: http://www.infineon.com/; ComponentLink2Description: Datasheet; ComponentLink2URL: http://www.infineon.com/dgdl/XC88xCLM_ds_V1_2.pdf?folderId=db3a304412b407950112b408e8c90004&fileId=db3a304412b407950112b40c4a9e0afb; ComponentLink3Description: Package Specification; ComponentLink3URL: http://www.infineon.com/dgdl/xc164lm_ds_v1.2_2007_03.pdf?folderId=db3a304412b407950112b408e8c90004&fileId=db3a304412b407950112b40c22200a81&sId=db3a30433d956bc3013d9e7060dd2801
footprint INF-PG-TQFP-64-8_N (QFP, 64-Leads, Body 10x10mm, Pitch 0.5mm, IPC Medium Density)
footprint INF-PG-TQFP-64-8_L (QFP, 64-Leads, Body 10x10mm, Pitch 0.5mm, IPC High Density)
footprint INF-PG-TQFP-64-8_M (QFP, 64-Leads, Body 10x10mm, Pitch 0.5mm, IPC Low Density)
part A pins: 1 P0.5 (io), 2 P0.6 (io) "GPIO", 3 XTAL2 "External Oscillator Output", 4 XTAL1 "External Oscillator Input", 8 P5.0 (io), 9 P5.1 (io), 10 P1.6 (io), 11 P1.7 (io), 12 P5.2 (io), 13 P5.3 (io), 14 P5.4 (io), 15 P5.5 (io), 16 TMS (in) "Test Mode Select", 17 P0.0 (io), 18 P0.2 (io), 19 P5.6 (io), 20 P5.7 (io), 21 P0.1 (io), 22 P2.0 (in), 23 P2.1 (in), 24 P2.2 (in), 27 P2.3 (in), 28 P2.4 (in), 29 P2.5 (in), 30 P2.6 (in), 33 P2.7 (in), 34 P1.0 (io), 35 P1.1 (io), 36 P1.2 (io), 37 P1.3 (io), 38 P1.4 (io), 39 P1.5 (io), 40 P4.3 (io), 41 P3.6 (io), 42 P3.7 (io), 43 P3.0 (io), 44 P3.1 (io), 45 P4.4 (io), 46 P4.5 (io), 47 P4.6 (io), 48 P4.7 (io), 49 P3.2 (io), 50 P3.3 (io), 51 P3.4 (io), 52 P3.5 (io), 53 ~{RESET} (in) "Reset Input", 56 NC "No Connection", 57 NC "No Connection", 58 MBC (in) "Monitor & BootStrap Loader Control", 59 P4.0 (io), 60 P4.1 (io), 61 P4.2 (io), 62 P0.7 (io), 63 P0.3 (io), 64 P0.4 (io)
part B pins: 5 VSSC (power) "Core Supply Ground", 6 VDDC (power) "Core Supply Monitor (2.5 V)", 7 VDDP (power) "I/O Port Supply (3.3 or 5.0 V)", 25 VDDP (power) "I/O Port Supply (3.3 or 5.0 V)", 26 VSSP (power) "I/O Port Ground", 31 VAGND (power) "ADC Reference Ground", 32 VAREF (power) "ADC Reference Voltage", 54 VSSP (power) "I/O Port Ground", 55 VDDP (power) "I/O Port Supply (3.3 or 5.0 V)"

## SAF-XC888CM-8FFA 5V AC
designator U?
24 MHz XC800-Automotive MCU with 32 KByte Program Memory, 1.75 KByte SRAM, 5 V, PG-LQFP-64, Reel, Green; Manufacturer: Infineon; PartNumber: SAF-XC888CM-8FFA 5V AC; A / D input lines (incl. FADC): 8; CAN Nodes: 2; Digital I/O Lines: 48; DMA Channels: 0; DSP functionality (e.g MDU/MAC): TRUE; I/O Operation Voltages: 5 V; LIN BSL loader (for fast Flash programming): FALSE; Max Clock Frequency: 24 MHz; Number of ADC Modules: 1; Power Modes: 4; Real Time Clock (RTC): FALSE; Serial I/O Interfaces: 3; Type of Memory: Flash; Type of Serial I/O Interfaces: UART(2), SSC(1); DatasheetVersion: Rev. 1.2; PackageVersion: V1.2, 03/2007; PackageReference: PG-TQFP-64-8; PackageDescription: 64-Pin Plastic Thin Quad Flat Package, Body 10 x 10 mm, Pitch 0.5 mm; Supplier 1: Digi-Key; Supplier Part Number 1: SAF-XC888CM-8FFA 5V AC-ND; E2PROM Emulation (Data-Flash): TRUE; Green: TRUE; Halogen-free: TRUE; Instruction width [bits]: 8; On-chip clock generation: TRUE; On-chip Voltage Regulator: TRUE; Oscillator Watchdog: TRUE; Program Memory: 32 KByte; SRAM (incl. Cache): 1.75 KByte; Timed I/O Pins (PWM-Ch,CAPCOM): 4; Timer / Counter: 4; Watchdog Timer: TRUE; Mounting Technology: Surface Mount; ComponentLink1Description: Manufacturer URL; ComponentLink1URL: http://www.infineon.com/; ComponentLink2Description: Datasheet; ComponentLink2URL: http://www.infineon.com/dgdl/XC88xCLM_ds_V1_2.pdf?folderId=db3a304412b407950112b408e8c90004&fileId=db3a304412b407950112b40c4a9e0afb; ComponentLink3Description: Package Specification; ComponentLink3URL: http://www.infineon.com/dgdl/xc164lm_ds_v1.2_2007_03.pdf?folderId=db3a304412b407950112b408e8c90004&fileId=db3a304412b407950112b40c22200a81&sId=db3a30433d956bc3013d9e7060dd2801
footprint INF-PG-TQFP-64-8_N (QFP, 64-Leads, Body 10x10mm, Pitch 0.5mm, IPC Medium Density)
footprint INF-PG-TQFP-64-8_L (QFP, 64-Leads, Body 10x10mm, Pitch 0.5mm, IPC High Density)
footprint INF-PG-TQFP-64-8_M (QFP, 64-Leads, Body 10x10mm, Pitch 0.5mm, IPC Low Density)
part A pins: 1 P0.5 (io), 2 P0.6 (io) "GPIO", 3 XTAL2 "External Oscillator Output", 4 XTAL1 "External Oscillator Input", 8 P5.0 (io), 9 P5.1 (io), 10 P1.6 (io), 11 P1.7 (io), 12 P5.2 (io), 13 P5.3 (io), 14 P5.4 (io), 15 P5.5 (io), 16 TMS (in) "Test Mode Select", 17 P0.0 (io), 18 P0.2 (io), 19 P5.6 (io), 20 P5.7 (io), 21 P0.1 (io), 22 P2.0 (in), 23 P2.1 (in), 24 P2.2 (in), 27 P2.3 (in), 28 P2.4 (in), 29 P2.5 (in), 30 P2.6 (in), 33 P2.7 (in), 34 P1.0 (io), 35 P1.1 (io), 36 P1.2 (io), 37 P1.3 (io), 38 P1.4 (io), 39 P1.5 (io), 40 P4.3 (io), 41 P3.6 (io), 42 P3.7 (io), 43 P3.0 (io), 44 P3.1 (io), 45 P4.4 (io), 46 P4.5 (io), 47 P4.6 (io), 48 P4.7 (io), 49 P3.2 (io), 50 P3.3 (io), 51 P3.4 (io), 52 P3.5 (io), 53 ~{RESET} (in) "Reset Input", 56 NC "No Connection", 57 NC "No Connection", 58 MBC (in) "Monitor & BootStrap Loader Control", 59 P4.0 (io), 60 P4.1 (io), 61 P4.2 (io), 62 P0.7 (io), 63 P0.3 (io), 64 P0.4 (io)
part B pins: 5 VSSC (power) "Core Supply Ground", 6 VDDC (power) "Core Supply Monitor (2.5 V)", 7 VDDP (power) "I/O Port Supply (3.3 or 5.0 V)", 25 VDDP (power) "I/O Port Supply (3.3 or 5.0 V)", 26 VSSP (power) "I/O Port Ground", 31 VAGND (power) "ADC Reference Ground", 32 VAREF (power) "ADC Reference Voltage", 54 VSSP (power) "I/O Port Ground", 55 VDDP (power) "I/O Port Supply (3.3 or 5.0 V)"

## SAF-XC888CM-8FFI 3V3 AC
designator U?
24 MHz XC800-Industrail MCU with 32 KByte Program Memory, 1.75 KByte SRAM, 3.3 V, -40 to 85 degC, PG-LQFP-64, Reel, Green; Manufacturer: Infineon; PartNumber: SAF-XC888CM-8FFI 3V3 AC; A / D input lines (incl. FADC): 8; CAN Nodes: 2; Digital I/O Lines: 48; DMA Channels: 0; DSP functionality (e.g MDU/MAC): TRUE; I/O Operation Voltages: 3.3 V; LIN BSL loader (for fast Flash programming): FALSE; Max Clock Frequency: 24 MHz; Number of ADC Modules: 1; Power Modes: 4; Serial I/O Interfaces: 3; Type of Memory: Flash; Type of Serial I/O Interfaces: UART(2), SSC(1); DatasheetVersion: Rev. 1.2; PackageVersion: Jun-08; PackageReference: PG-LQFP-64-4; PackageDescription: 64-Pin Plastic (Green) Low Profile Quad Flat Package, 10 x 10 mm Body, 0.5 mm Pitch; E2PROM Emulation (Data-Flash): TRUE; Green: TRUE; Halogen-free: TRUE; Instruction width [bits]: 8; On-chip clock generation: TRUE; On-chip Voltage Regulator: TRUE; Oscillator Watchdog: TRUE; Packing: Reel; Program Memory: 32 KByte; SRAM (incl. Cache): 1.75 KByte; Timed I/O Pins (PWM-Ch,CAPCOM): 4; Timer / Counter: 4; Watchdog Timer: TRUE; Mounting Technology: Surface Mount; ComponentLink1Description: Manufacturer URL; ComponentLink1URL: http://www.infineon.com/; ComponentLink2Description: Datasheet; ComponentLink2URL: http://www.infineon.com/dgdl/XC88xCLM_ds_V1_2.pdf?folderId=db3a304412b407950112b408e8c90004&fileId=db3a304412b407950112b40c4a9e0afb; ComponentLink3Description: Package Specification; ComponentLink3URL: http://www.infineon.com/dgdl/PG-LQFP-64-4%2C-5%2C-13-Package_Overview.pdf?folderId=db3a30431a5c32f2011a8ca6115b5cf2&fileId=db3a30431a5c32f2011a8cb1baf95d11
footprint INF-PG-LQFP-64-4_N (QFP, 64-Leads, Body 10x10mm, Pitch 0.5mm, IPC Medium Density)
footprint INF-PG-LQFP-64-4_L (QFP, 64-Leads, Body 10x10mm, Pitch 0.5mm, IPC High Density)
footprint INF-PG-LQFP-64-4_M (QFP, 64-Leads, Body 10x10mm, Pitch 0.5mm, IPC Low Density)
part A pins: 1 P0.5 (io), 2 P0.6 (io) "GPIO", 3 XTAL2 "External Oscillator Output", 4 XTAL1 "External Oscillator Input", 8 P5.0 (io), 9 P5.1 (io), 10 P1.6 (io), 11 P1.7 (io), 12 P5.2 (io), 13 P5.3 (io), 14 P5.4 (io), 15 P5.5 (io), 16 TMS (in) "Test Mode Select", 17 P0.0 (io), 18 P0.2 (io), 19 P5.6 (io), 20 P5.7 (io), 21 P0.1 (io), 22 P2.0 (in), 23 P2.1 (in), 24 P2.2 (in), 27 P2.3 (in), 28 P2.4 (in), 29 P2.5 (in), 30 P2.6 (in), 33 P2.7 (in), 34 P1.0 (io), 35 P1.1 (io), 36 P1.2 (io), 37 P1.3 (io), 38 P1.4 (io), 39 P1.5 (io), 40 P4.3 (io), 41 P3.6 (io), 42 P3.7 (io), 43 P3.0 (io), 44 P3.1 (io), 45 P4.4 (io), 46 P4.5 (io), 47 P4.6 (io), 48 P4.7 (io), 49 P3.2 (io), 50 P3.3 (io), 51 P3.4 (io), 52 P3.5 (io), 53 ~{RESET} (in) "Reset Input", 56 NC "No Connection", 57 NC "No Connection", 58 MBC (in) "Monitor & BootStrap Loader Control", 59 P4.0 (io), 60 P4.1 (io), 61 P4.2 (io), 62 P0.7 (io), 63 P0.3 (io), 64 P0.4 (io)
part B pins: 5 VSSC (power) "Core Supply Ground", 6 VDDC (power) "Core Supply Monitor (2.5 V)", 7 VDDP (power) "I/O Port Supply (3.3 or 5.0 V)", 25 VDDP (power) "I/O Port Supply (3.3 or 5.0 V)", 26 VSSP (power) "I/O Port Ground", 31 VAGND (power) "ADC Reference Ground", 32 VAREF (power) "ADC Reference Voltage", 54 VSSP (power) "I/O Port Ground", 55 VDDP (power) "I/O Port Supply (3.3 or 5.0 V)"

## SAF-XC888CM-8FFI 5V AC
designator U?
24 MHz XC800-Industrail MCU with 32 KByte Program Memory, 1.75 KByte SRAM, 5 V, -40 to 85 degC, PG-LQFP-64, Reel, Green; Manufacturer: Infineon; PartNumber: SAF-XC888CM-8FFI 5V AC; A / D input lines (incl. FADC): 8; CAN Nodes: 2; Digital I/O Lines: 48; DMA Channels: 0; DSP functionality (e.g MDU/MAC): TRUE; I/O Operation Voltages: 5 V; LIN BSL loader (for fast Flash programming): FALSE; Max Clock Frequency: 24 MHz; Number of ADC Modules: 1; Power Modes: 4; Serial I/O Interfaces: 3; Type of Memory: Flash; Type of Serial I/O Interfaces: UART(2), SSC(1); DatasheetVersion: Rev. 1.2; PackageVersion: Jun-08; PackageReference: PG-LQFP-64-4; PackageDescription: 64-Pin Plastic (Green) Low Profile Quad Flat Package, 10 x 10 mm Body, 0.5 mm Pitch; Supplier 1: Digi-Key; Supplier Part Number 1: SAF-XC888CM-8FFI 5V AC-ND; E2PROM Emulation (Data-Flash): TRUE; Green: TRUE; Halogen-free: TRUE; Instruction width [bits]: 8; On-chip clock generation: TRUE; On-chip Voltage Regulator: TRUE; Oscillator Watchdog: TRUE; Packing: Reel; Program Memory: 32 KByte; SRAM (incl. Cache): 1.75 KByte; Timed I/O Pins (PWM-Ch,CAPCOM): 4; Timer / Counter: 4; Watchdog Timer: TRUE; Mounting Technology: Surface Mount; ComponentLink1Description: Manufacturer URL; ComponentLink1URL: http://www.infineon.com/; ComponentLink2Description: Datasheet; ComponentLink2URL: http://www.infineon.com/dgdl/XC88xCLM_ds_V1_2.pdf?folderId=db3a304412b407950112b408e8c90004&fileId=db3a304412b407950112b40c4a9e0afb; ComponentLink3Description: Package Specification; ComponentLink3URL: http://www.infineon.com/dgdl/PG-LQFP-64-4%2C-5%2C-13-Package_Overview.pdf?folderId=db3a30431a5c32f2011a8ca6115b5cf2&fileId=db3a30431a5c32f2011a8cb1baf95d11
footprint INF-PG-LQFP-64-4_N (QFP, 64-Leads, Body 10x10mm, Pitch 0.5mm, IPC Medium Density)
footprint INF-PG-LQFP-64-4_L (QFP, 64-Leads, Body 10x10mm, Pitch 0.5mm, IPC High Density)
footprint INF-PG-LQFP-64-4_M (QFP, 64-Leads, Body 10x10mm, Pitch 0.5mm, IPC Low Density)
part A pins: 1 P0.5 (io), 2 P0.6 (io) "GPIO", 3 XTAL2 "External Oscillator Output", 4 XTAL1 "External Oscillator Input", 8 P5.0 (io), 9 P5.1 (io), 10 P1.6 (io), 11 P1.7 (io), 12 P5.2 (io), 13 P5.3 (io), 14 P5.4 (io), 15 P5.5 (io), 16 TMS (in) "Test Mode Select", 17 P0.0 (io), 18 P0.2 (io), 19 P5.6 (io), 20 P5.7 (io), 21 P0.1 (io), 22 P2.0 (in), 23 P2.1 (in), 24 P2.2 (in), 27 P2.3 (in), 28 P2.4 (in), 29 P2.5 (in), 30 P2.6 (in), 33 P2.7 (in), 34 P1.0 (io), 35 P1.1 (io), 36 P1.2 (io), 37 P1.3 (io), 38 P1.4 (io), 39 P1.5 (io), 40 P4.3 (io), 41 P3.6 (io), 42 P3.7 (io), 43 P3.0 (io), 44 P3.1 (io), 45 P4.4 (io), 46 P4.5 (io), 47 P4.6 (io), 48 P4.7 (io), 49 P3.2 (io), 50 P3.3 (io), 51 P3.4 (io), 52 P3.5 (io), 53 ~{RESET} (in) "Reset Input", 56 NC "No Connection", 57 NC "No Connection", 58 MBC (in) "Monitor & BootStrap Loader Control", 59 P4.0 (io), 60 P4.1 (io), 61 P4.2 (io), 62 P0.7 (io), 63 P0.3 (io), 64 P0.4 (io)
part B pins: 5 VSSC (power) "Core Supply Ground", 6 VDDC (power) "Core Supply Monitor (2.5 V)", 7 VDDP (power) "I/O Port Supply (3.3 or 5.0 V)", 25 VDDP (power) "I/O Port Supply (3.3 or 5.0 V)", 26 VSSP (power) "I/O Port Ground", 31 VAGND (power) "ADC Reference Ground", 32 VAREF (power) "ADC Reference Voltage", 54 VSSP (power) "I/O Port Ground", 55 VDDP (power) "I/O Port Supply (3.3 or 5.0 V)"

## SAF-XC888CM-8RFA AA
designator U?
24 MHz XC800-Automotive MCU with 32 KByte Program Memory, 1.75 KByte SRAM, 5 V, PG-TQFP-64, Reel, Green; Manufacturer: Infineon; PartNumber: SAF-XC888CM-8RFA AA; A / D input lines (incl. FADC): 8; CAN Nodes: 2; Digital I/O Lines: 34; DMA Channels: 4; DSP functionality (e.g MDU/MAC): TRUE; I/O Operation Voltages: 5 V; LIN BSL loader (for fast Flash programming): FALSE; Max Clock Frequency: 24 MHz; Number of ADC Modules: 1; Real Time Clock (RTC): FALSE; Serial I/O Interfaces: 3; Timer / Counter: 0; Type of Memory: ROM; Type of Serial I/O Interfaces: UART(2), SSC(1); DatasheetVersion: Rev. 1.2; PackageVersion: V1.2, 03/2007; PackageReference: PG-TQFP-64-8; PackageDescription: 64-Pin Plastic Thin Quad Flat Package, Body 10 x 10 mm, Pitch 0.5 mm; E2PROM Emulation (Data-Flash): TRUE; Green: TRUE; Halogen-free: available; Instruction width [bits]: 8; On-chip clock generation: TRUE; On-chip Voltage Regulator: TRUE; Oscillator Watchdog: TRUE; Packing: Reel; Power Modes: 4; Program Memory: 32 KByte; SRAM (incl. Cache): 1.75 KByte; Timed I/O Pins (PWM-Ch,CAPCOM): 4; Watchdog Timer: TRUE; Mounting Technology: Surface Mount; ComponentLink1Description: Manufacturer URL; ComponentLink1URL: http://www.infineon.com/; ComponentLink2Description: Datasheet; ComponentLink2URL: http://www.infineon.com/dgdl/XC88xCLM_ds_V1_2.pdf?folderId=db3a304412b407950112b408e8c90004&fileId=db3a304412b407950112b40c4a9e0afb; ComponentLink3Description: Package Specification; ComponentLink3URL: http://www.infineon.com/dgdl/xc164lm_ds_v1.2_2007_03.pdf?folderId=db3a304412b407950112b408e8c90004&fileId=db3a304412b407950112b40c22200a81&sId=db3a30433d956bc3013d9e7060dd2801
footprint INF-PG-TQFP-64-8_N (QFP, 64-Leads, Body 10x10mm, Pitch 0.5mm, IPC Medium Density)
footprint INF-PG-TQFP-64-8_L (QFP, 64-Leads, Body 10x10mm, Pitch 0.5mm, IPC High Density)
footprint INF-PG-TQFP-64-8_M (QFP, 64-Leads, Body 10x10mm, Pitch 0.5mm, IPC Low Density)
part A pins: 1 P0.5 (io), 2 P0.6 (io) "GPIO", 3 XTAL2 "External Oscillator Output", 4 XTAL1 "External Oscillator Input", 8 P5.0 (io), 9 P5.1 (io), 10 P1.6 (io), 11 P1.7 (io), 12 P5.2 (io), 13 P5.3 (io), 14 P5.4 (io), 15 P5.5 (io), 16 TMS (in) "Test Mode Select", 17 P0.0 (io), 18 P0.2 (io), 19 P5.6 (io), 20 P5.7 (io), 21 P0.1 (io), 22 P2.0 (in), 23 P2.1 (in), 24 P2.2 (in), 27 P2.3 (in), 28 P2.4 (in), 29 P2.5 (in), 30 P2.6 (in), 33 P2.7 (in), 34 P1.0 (io), 35 P1.1 (io), 36 P1.2 (io), 37 P1.3 (io), 38 P1.4 (io), 39 P1.5 (io), 40 P4.3 (io), 41 P3.6 (io), 42 P3.7 (io), 43 P3.0 (io), 44 P3.1 (io), 45 P4.4 (io), 46 P4.5 (io), 47 P4.6 (io), 48 P4.7 (io), 49 P3.2 (io), 50 P3.3 (io), 51 P3.4 (io), 52 P3.5 (io), 53 ~{RESET} (in) "Reset Input", 56 NC "No Connection", 57 NC "No Connection", 58 MBC (in) "Monitor & BootStrap Loader Control", 59 P4.0 (io), 60 P4.1 (io), 61 P4.2 (io), 62 P0.7 (io), 63 P0.3 (io), 64 P0.4 (io)
part B pins: 5 VSSC (power) "Core Supply Ground", 6 VDDC (power) "Core Supply Monitor (2.5 V)", 7 VDDP (power) "I/O Port Supply (3.3 or 5.0 V)", 25 VDDP (power) "I/O Port Supply (3.3 or 5.0 V)", 26 VSSP (power) "I/O Port Ground", 31 VAGND (power) "ADC Reference Ground", 32 VAREF (power) "ADC Reference Voltage", 54 VSSP (power) "I/O Port Ground", 55 VDDP (power) "I/O Port Supply (3.3 or 5.0 V)"

## SAF-XC888LM-6FFA 5V AC
designator U?
24 MHz XC800-Automotive MCU with 24 KByte Program Memory, 1.75 KByte SRAM, 5 V, PG-LQFP-64, Reel, Green; Manufacturer: Infineon; PartNumber: SAF-XC888LM-6FFA 5V AC; A / D input lines (incl. FADC): 8; CAN Nodes: 0; Digital I/O Lines: 48; DSP functionality (e.g MDU/MAC): TRUE; I/O Operation Voltages: 5 V; Max Clock Frequency: 24 MHz; Number of ADC Modules: 1; Power Modes: 4; Real Time Clock (RTC): FALSE; Serial I/O Interfaces: 3; Type of Memory: Flash; Type of Serial I/O Interfaces: UART(2), SSC(1); DatasheetVersion: Rev. 1.2; PackageVersion: V1.2, 03/2007; PackageReference: PG-TQFP-64-8; PackageDescription: 64-Pin Plastic Thin Quad Flat Package, Body 10 x 10 mm, Pitch 0.5 mm; Supplier 1: Digi-Key; Supplier Part Number 1: SAF-XC888LM-6FFA 5V AC-ND; DMA Channels: 0; E2PROM Emulation (Data-Flash): TRUE; Green: TRUE; Halogen-free: TRUE; Instruction width [bits]: 8; LIN BSL loader (for fast Flash programming): TRUE; On-chip clock generation: TRUE; On-chip Voltage Regulator: TRUE; Oscillator Watchdog: TRUE; Program Memory: 24 KByte; SRAM (incl. Cache): 1.75 KByte; Timed I/O Pins (PWM-Ch,CAPCOM): 4; Timer / Counter: 4; Watchdog Timer: TRUE; Mounting Technology: Surface Mount; ComponentLink1Description: Manufacturer URL; ComponentLink1URL: http://www.infineon.com/; ComponentLink2Description: Datasheet; ComponentLink2URL: http://www.infineon.com/dgdl/XC88xCLM_ds_V1_2.pdf?folderId=db3a304412b407950112b408e8c90004&fileId=db3a304412b407950112b40c4a9e0afb; ComponentLink3Description: Package Specification; ComponentLink3URL: http://www.infineon.com/dgdl/xc164lm_ds_v1.2_2007_03.pdf?folderId=db3a304412b407950112b408e8c90004&fileId=db3a304412b407950112b40c22200a81&sId=db3a30433d956bc3013d9e7060dd2801
footprint INF-PG-TQFP-64-8_N (QFP, 64-Leads, Body 10x10mm, Pitch 0.5mm, IPC Medium Density)
footprint INF-PG-TQFP-64-8_L (QFP, 64-Leads, Body 10x10mm, Pitch 0.5mm, IPC High Density)
footprint INF-PG-TQFP-64-8_M (QFP, 64-Leads, Body 10x10mm, Pitch 0.5mm, IPC Low Density)
part A pins: 1 P0.5 (io), 2 P0.6 (io) "GPIO", 3 XTAL2 "External Oscillator Output", 4 XTAL1 "External Oscillator Input", 8 P5.0 (io), 9 P5.1 (io), 10 P1.6 (io), 11 P1.7 (io), 12 P5.2 (io), 13 P5.3 (io), 14 P5.4 (io), 15 P5.5 (io), 16 TMS (in) "Test Mode Select", 17 P0.0 (io), 18 P0.2 (io), 19 P5.6 (io), 20 P5.7 (io), 21 P0.1 (io), 22 P2.0 (in), 23 P2.1 (in), 24 P2.2 (in), 27 P2.3 (in), 28 P2.4 (in), 29 P2.5 (in), 30 P2.6 (in), 33 P2.7 (in), 34 P1.0 (io), 35 P1.1 (io), 36 P1.2 (io), 37 P1.3 (io), 38 P1.4 (io), 39 P1.5 (io), 40 P4.3 (io), 41 P3.6 (io), 42 P3.7 (io), 43 P3.0 (io), 44 P3.1 (io), 45 P4.4 (io), 46 P4.5 (io), 47 P4.6 (io), 48 P4.7 (io), 49 P3.2 (io), 50 P3.3 (io), 51 P3.4 (io), 52 P3.5 (io), 53 ~{RESET} (in) "Reset Input", 56 NC "No Connection", 57 NC "No Connection", 58 MBC (in) "Monitor & BootStrap Loader Control", 59 P4.0 (io), 60 P4.1 (io), 61 P4.2 (io), 62 P0.7 (io), 63 P0.3 (io), 64 P0.4 (io)
part B pins: 5 VSSC (power) "Core Supply Ground", 6 VDDC (power) "Core Supply Monitor (2.5 V)", 7 VDDP (power) "I/O Port Supply (3.3 or 5.0 V)", 25 VDDP (power) "I/O Port Supply (3.3 or 5.0 V)", 26 VSSP (power) "I/O Port Ground", 31 VAGND (power) "ADC Reference Ground", 32 VAREF (power) "ADC Reference Voltage", 54 VSSP (power) "I/O Port Ground", 55 VDDP (power) "I/O Port Supply (3.3 or 5.0 V)"

## SAF-XC888LM-6FFI 3V3 AC
designator U?
24 MHz XC800-Industrail MCU with 24 KByte Program Memory, 1.75 KByte SRAM, 3.3 V, -40 to 85 degC, PG-LQFP-64, Reel, Green; Manufacturer: Infineon; PartNumber: SAF-XC888LM-6FFI 3V3 AC; A / D input lines (incl. FADC): 8; CAN Nodes: 0; Digital I/O Lines: 48; DSP functionality (e.g MDU/MAC): TRUE; I/O Operation Voltages: 3.3 V; Max Clock Frequency: 24 MHz; Number of ADC Modules: 1; Power Modes: 4; Serial I/O Interfaces: 3; Type of Memory: Flash; Type of Serial I/O Interfaces: UART(2), SSC(1); DatasheetVersion: Rev. 1.2; PackageVersion: Jun-08; PackageReference: PG-LQFP-64-4; PackageDescription: 64-Pin Plastic (Green) Low Profile Quad Flat Package, 10 x 10 mm Body, 0.5 mm Pitch; Supplier 1: Digi-Key; Supplier Part Number 1: SAF-XC888LM-6FFI 3V3 AC-ND; DMA Channels: 0; E2PROM Emulation (Data-Flash): TRUE; Green: TRUE; Halogen-free: TRUE; Instruction width [bits]: 8; LIN BSL loader (for fast Flash programming): TRUE; On-chip clock generation: TRUE; On-chip Voltage Regulator: TRUE; Oscillator Watchdog: TRUE; Packing: Reel; Program Memory: 24 KByte; SRAM (incl. Cache): 1.75 KByte; Timed I/O Pins (PWM-Ch,CAPCOM): 4; Timer / Counter: 4; Watchdog Timer: TRUE; Mounting Technology: Surface Mount; ComponentLink1Description: Manufacturer URL; ComponentLink1URL: http://www.infineon.com/; ComponentLink2Description: Datasheet; ComponentLink2URL: http://www.infineon.com/dgdl/XC88xCLM_ds_V1_2.pdf?folderId=db3a304412b407950112b408e8c90004&fileId=db3a304412b407950112b40c4a9e0afb; ComponentLink3Description: Package Specification; ComponentLink3URL: http://www.infineon.com/dgdl/PG-LQFP-64-4%2C-5%2C-13-Package_Overview.pdf?folderId=db3a30431a5c32f2011a8ca6115b5cf2&fileId=db3a30431a5c32f2011a8cb1baf95d11
footprint INF-PG-LQFP-64-4_N (QFP, 64-Leads, Body 10x10mm, Pitch 0.5mm, IPC Medium Density)
footprint INF-PG-LQFP-64-4_L (QFP, 64-Leads, Body 10x10mm, Pitch 0.5mm, IPC High Density)
footprint INF-PG-LQFP-64-4_M (QFP, 64-Leads, Body 10x10mm, Pitch 0.5mm, IPC Low Density)
part A pins: 1 P0.5 (io), 2 P0.6 (io) "GPIO", 3 XTAL2 "External Oscillator Output", 4 XTAL1 "External Oscillator Input", 8 P5.0 (io), 9 P5.1 (io), 10 P1.6 (io), 11 P1.7 (io), 12 P5.2 (io), 13 P5.3 (io), 14 P5.4 (io), 15 P5.5 (io), 16 TMS (in) "Test Mode Select", 17 P0.0 (io), 18 P0.2 (io), 19 P5.6 (io), 20 P5.7 (io), 21 P0.1 (io), 22 P2.0 (in), 23 P2.1 (in), 24 P2.2 (in), 27 P2.3 (in), 28 P2.4 (in), 29 P2.5 (in), 30 P2.6 (in), 33 P2.7 (in), 34 P1.0 (io), 35 P1.1 (io), 36 P1.2 (io), 37 P1.3 (io), 38 P1.4 (io), 39 P1.5 (io), 40 P4.3 (io), 41 P3.6 (io), 42 P3.7 (io), 43 P3.0 (io), 44 P3.1 (io), 45 P4.4 (io), 46 P4.5 (io), 47 P4.6 (io), 48 P4.7 (io), 49 P3.2 (io), 50 P3.3 (io), 51 P3.4 (io), 52 P3.5 (io), 53 ~{RESET} (in) "Reset Input", 56 NC "No Connection", 57 NC "No Connection", 58 MBC (in) "Monitor & BootStrap Loader Control", 59 P4.0 (io), 60 P4.1 (io), 61 P4.2 (io), 62 P0.7 (io), 63 P0.3 (io), 64 P0.4 (io)
part B pins: 5 VSSC (power) "Core Supply Ground", 6 VDDC (power) "Core Supply Monitor (2.5 V)", 7 VDDP (power) "I/O Port Supply (3.3 or 5.0 V)", 25 VDDP (power) "I/O Port Supply (3.3 or 5.0 V)", 26 VSSP (power) "I/O Port Ground", 31 VAGND (power) "ADC Reference Ground", 32 VAREF (power) "ADC Reference Voltage", 54 VSSP (power) "I/O Port Ground", 55 VDDP (power) "I/O Port Supply (3.3 or 5.0 V)"

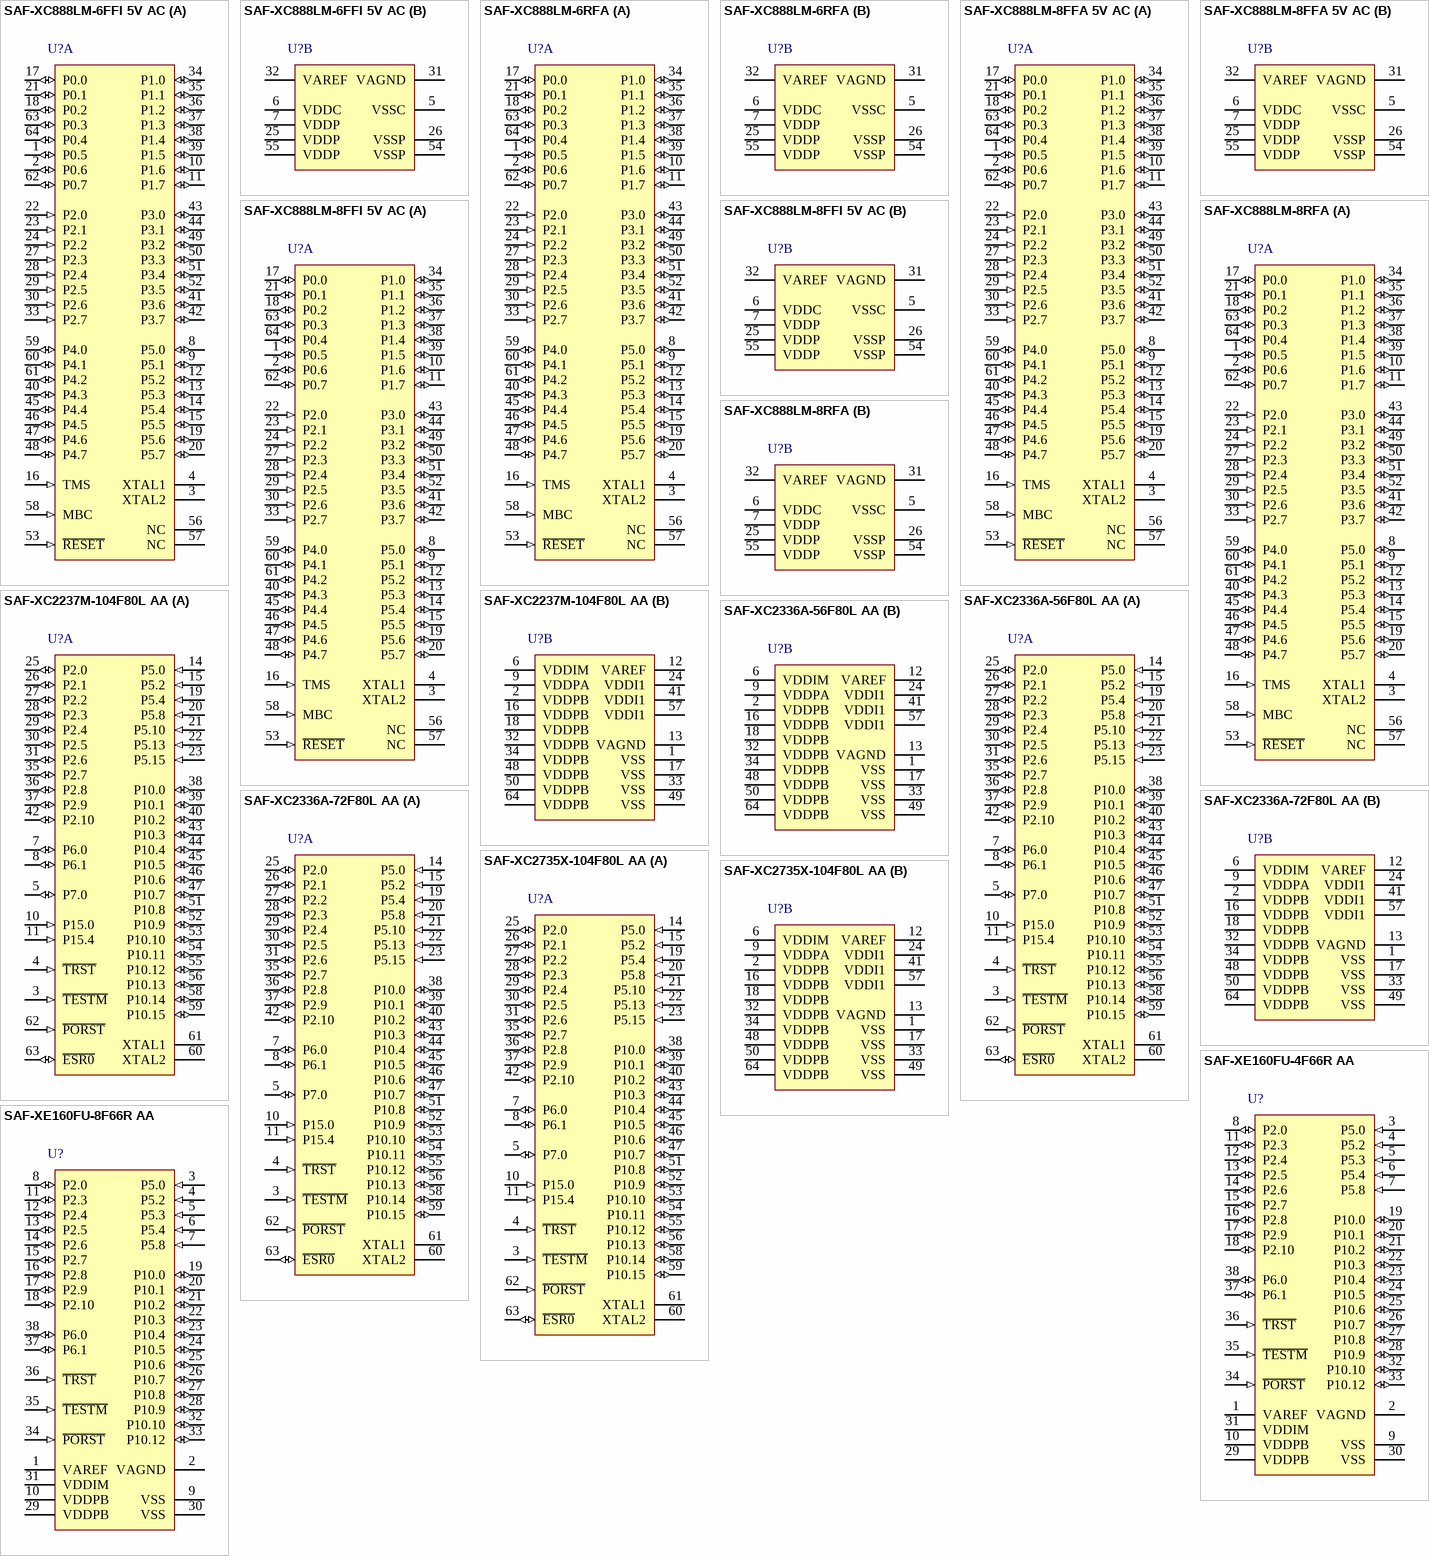
[diagram p28: symbols SAF-XC888LM-6FFI 5V AC to SAF-XE160FU-8F66R AA]